# Altium schematic symbol library kmilo17pet-TI_BattMgmt.SchLib: 950 symbols (part 60 of 60)
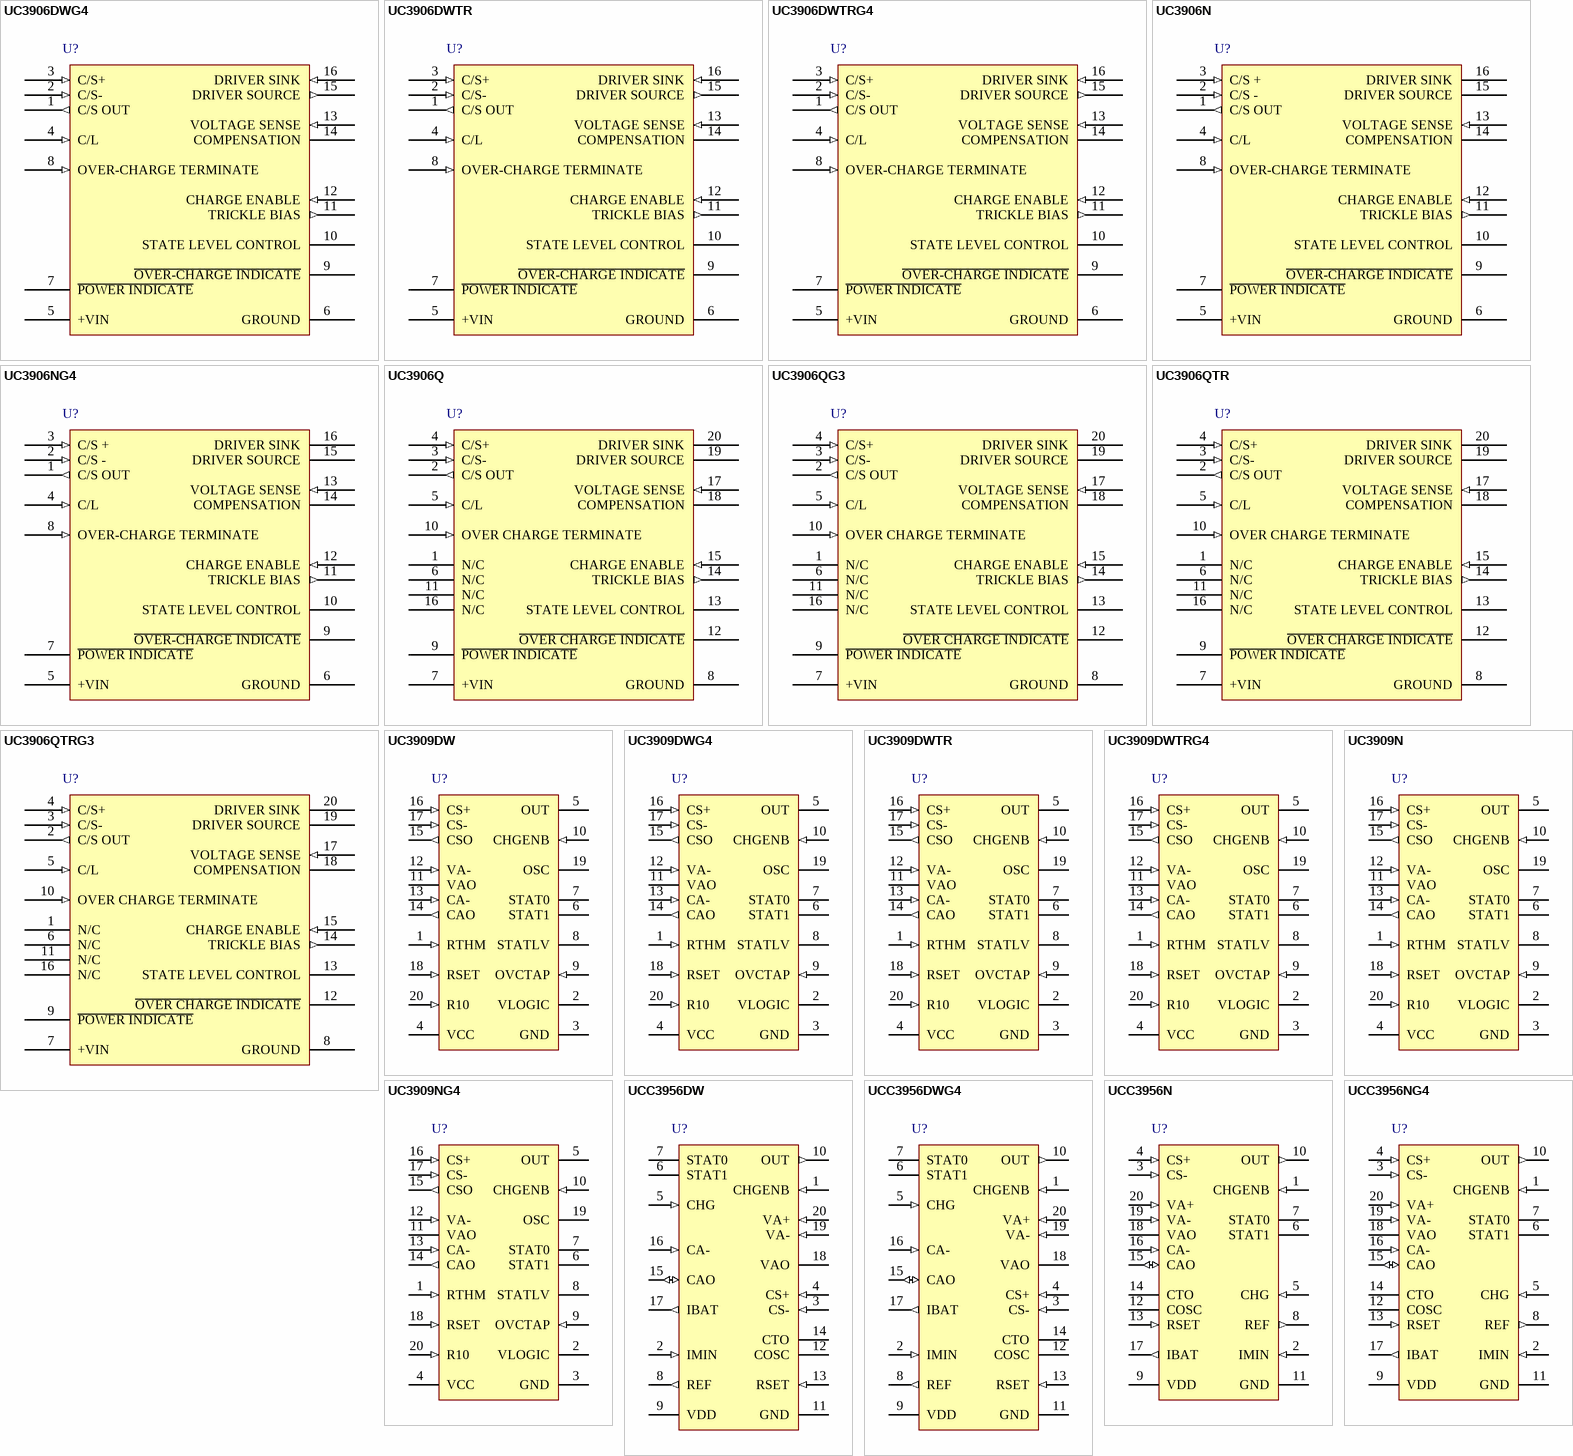
[diagram p93: symbols UC3906DWG4 to UCC3956NG4]

## UCC3956NG4
designator U?
Switch-Mode Lead-Acid Battery Charger with Differential Current Sense, -20 to 70 degC, 20-pin PDIP (N), Green (RoHS & no Sb/Br); PartNumber: UCC3956NG4; Manufacturer: Texas Instruments; Li-Ion: Y; SubFamily: Battery Charge Management; DatasheetVersion: SLUS249B; PackageVersion: revE, Dec-2002; PackageReference: N20; PackageDescription: 20-Pin Plastic Dual-In-Line Package, Row Spacing 7.62 mm, Pitch 2.54 mm; Supplier 1: Digi-Key; Supplier Part Number 1: UCC3956NG4-ND; Supplier Part Number 3: 595-UCC3956NG4; Eco-Plan: Green (RoHS & no Sb/Br); Lead Acid: N; Li-Polymer: Y; NiCd: N; NiMH: N; Over Voltage Protection: N; Mounting Technology: Through Hole; Code_JEDEC: MS-001-AC*; ComponentLink1Description: Datasheet; ComponentLink1URL: http://www.ti.com/general/docs/lit/getliterature.tsp?genericPartNumber=UCC3956&fileType=pdf
footprint N20 (DIP, 20-Leads, Row Spacing 7.62mm, Pitch 2.54mm, Body 25.4x6.4mm)
pins: 1 CHGENB (in) "The input to a comparator that detects when the battery voltage is low and places the charger in trickle charge. The charge-enable comparator forces the output of the voltage-error amplifier to a high-impedance state while (See Datasheet)", 2 IMIN (in) "The minimum-charge-current programming pin is provided to program an optional-charge termination in addition to the programmable timer.", 3 CS- (in) "The inverting and non-inverting inputs to the current-sense amplifier. This amplifier has a fixed-gain of 5.", 4 CS+ (in) "The inverting and non-inverting inputs to the current-sense amplifier. This amplifier has a fixed-gain of 5.", 5 CHG (in) "A rising-edge triggered-input pin that indicates charging. Once the internal 14-bit timer has timed out, the chip enters its shutdown charge state. At this point, CHG is pulled low by an internal buffer. Another low-to-high (See Datasheet)", 6 STAT1 (oc) "CMOS open-drain binary-output decode pins indicating the four different charge states. The maximum high-voltage sense comparator.", 7 STAT0 (oc) "CMOS open-drain binary-output decode pins indicating the four different charge states. The maximum high-voltage sense comparator.", 8 REF (out) "The 4.1-V precision reference, which should be bypassed with a 0.1-uF capacitor", 9 VDD (power) "The input voltage of the chip. This chip is operational between 6 V and 18 V and should be bypassed with a 0.1-uF capacitor.", 10 OUT (out) "The output of the PWM driver", 11 GND (power) "The reference point for the internal reference, all thresholds, and the return for the remainder of the device.", 12 COSC "The oscillator ramp pin which has a capacitor (COSC) to ground. The ramp oscillates between 0.8 V to 3.2 V and the frequency is determined by:Frequency = 3.475/[(COSC  20 pF) X RSET] A rising edge on CHG initiates the (See Datasheet)", 13 RSET (in) "This pin programs the charge current for the oscillator ramp.The oscillator-charge current is determined by:ICOSC=1.37 V/REST  The trickle-control current (ITRCK_CONTROL) is determined by:ITCK_CONTROL=0.68 V/REST.", 14 CTO "The slow oscillator ramp pin, which is used to generate a clock signal for the 14-bit timer to program the overcharge time. A capacitor (tied to ground) is charged and discharged with equal currents at a frequency programmed (See Datasheet)", 15 CAO (io) "The output of the current-error amplifier and inverting input of the PWM comparator. This pin is driven high during shutdown.", 16 CA- (in) "The inverting input to the current-error amplifier", 17 IBAT (out) "The output of the current-sense amplifier.", 18 VAO (hiz) "The output of the voltage-error amplifier. The upper-output clamp of this amplifier is 4.1 V.", 19 VA- (in) "The inverting input to the voltage-error amplifier that is used as a battery-sense input. It is also the input to the voltage-sense comparator. The bulk-charge state is completed and overcharge state is initiated when VA- (See Datasheet)", 20 VA+ (in) "The non-inverting input to the voltage-error amplifier that is used as the battery-charge reference voltage."